# Altium integrated library Big_Library_Mosfet_Gate_Driver.IntLib: 3 symbols
Pins are listed as number, name and electrical type; pins without a type are passive.

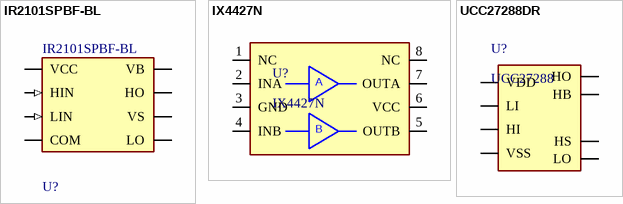
[diagram p0: symbols IR2101SPBF-BL to UCC27288DR]

## IR2101SPBF-BL
designator U?
MOSFET DRVR 600V 0.36A 2-OUT Hi/Lo Side Non-Inv 8-Pin SOIC
footprint FP-PG-DSO-8-MFG
footprint FP-PG-DSO-8-IPC_C
footprint FP-PG-DSO-8-IPC_B
footprint FP-PG-DSO-8-IPC_A
pins: 1 VCC (power), 2 HIN (in), 3 LIN (in), 4 COM, 5 LO, 6 VS (power), 7 HO, 8 VB (power)

## IX4427N
designator U?
IX4427 Series Dual 30 V 1.5 A Surface Mount Low Side Driver - SOIC-8; Manufacturer: IXYS; Supplier 1: Mouser; Manufacturer Part Number: IX4427N; RoHS: Yes; Category: Gate Drivers; Stock 1: 37346; Pricing 1: 1=1,2, 10=1,05, 50=1,05, 100=0,766, 1000=0,562, 10000=0,47 (USD); ComponentLink1Description: Link; ComponentLink1URL: https://ozdisan.com/integrated-circuits-ics/power-management-ics/power-drivers/IX4427N/389784
footprint SOIC127P600X130-8N (SOIC, 8-Leads, Body 5,00x4,00mm, Pitch 1,27mm, IPC Medium Density)
pins: 1 NC, 2 INA, 3 GND, 4 INB, 5 OUTB, 6 VCC, 7 OUTA, 8 NC
text: A; B

## UCC27288DR
designator U?, comment UCC27288
2.5-A to 3.5-A 120-V half-bridge driver with 8-V UVLO and no internal bootstrap diode 8-SOIC -40 to 125; Manufacturer: Texas Instruments; Manufacturer Part Number: UCC27288DR; Supplier 1: Digi-Key; RoHS: No; ComponentLink1Description: Link; ComponentLink1URL: https://www.digikey.com/en/products/detail/texas-instruments/UCC27288DR/13531310; ComponentLink2Description: DataSheet; ComponentLink2URL: https://www.ti.com/lit/ds/symlink/ucc27288.pdf?ts=1603623487984&ref_url=https%253A%252F%252Fwww.ti.com%252Fstore%252Fti%252Fen%252Fsearch%252F%253Ftext%253DUCC27288DR%2526searchType%253D
footprint TI SOIC-8 D (SOP, 8-Leads, Body 4.90x3.90mm, Pitch 1.27mm, IPC Medium Density)
pins: 1 VDD, 2 HB, 3 HO, 4 HS, 5 HI, 6 LI, 7 VSS, 8 LO